# Altium schematic symbol library Schlib.SchLib: 7 symbols
Pins are listed as number, name and electrical type; pins without a type are passive.

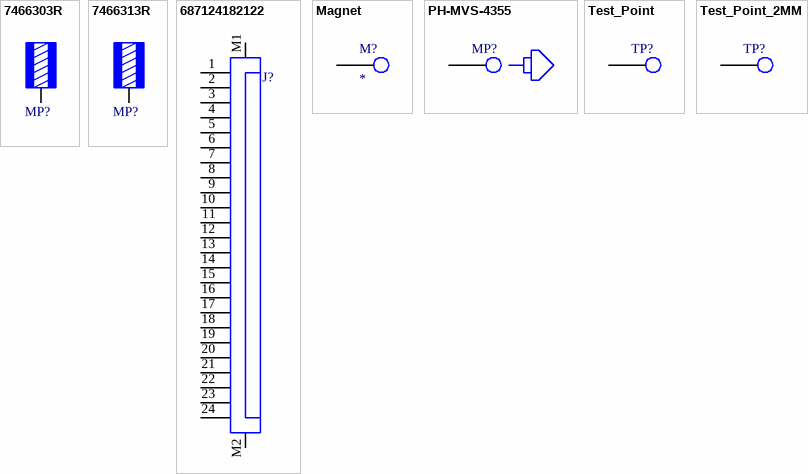
[diagram p0: symbols 7466303R to Test_Point_2MM]

## 7466303R
designator MP?, comment M3  (value not drawn)
WP-SMRA REDCUBE SMT Right Angled without pins, M3, 50A; Manufacturer Part Number: 7466303R; Manufacturer: Wurth Elektronik; Surface: Tin; ComponentLink1Description: Website Link; ComponentLink1URL: https://www.we-online.com/redexpert/article/7466303R?ad; ComponentLink2Description: Datasheet Link; ComponentLink2URL: https://www.we-online.com/redexpert/spec/7466303R?ad; Category: REDCUBE SMT; Match Code: WP-SMRA; Mount: Surface Mount; Operating Temperature Max: 150°C; Operating Temperature Min: -55°C; Packaging: Tape and Reel; Height: 5mm; Material: Brass; Rated Current: 50A; Thread Size: M3
footprint 7466303
pins: 1

## 7466313R
designator MP?, comment M3  (value not drawn)
WP-SMRA REDCUBE SMT Right Angled with pins, M3, 50A; Manufacturer Part Number: 7466313R; Manufacturer: Wurth Elektronik; Surface: Tin; ComponentLink1Description: Website Link; ComponentLink1URL: https://www.we-online.com/redexpert/article/7466313R?ad; ComponentLink2Description: Datasheet Link; ComponentLink2URL: https://www.we-online.com/redexpert/spec/7466313R?ad; Category: REDCUBE SMT; Match Code: WP-SMRA; Mount: Surface Mount; Operating Temperature Max: 150°C; Operating Temperature Min: -55°C; Packaging: Tape and Reel; Height: 7mm; Material: Brass; Rated Current: 50A; Thread Size: M3
footprint 7466313
pins: 1

## 687124182122
designator J?  (value not drawn)
WR-FPC SMT ZIF Horizontal Dual Contact, pitch 0.5mm, Horizontal, 24pins; Manufacturer: Wurth Elektronik; Contact Resistance: 30mΩ; Rated Current: 0.5A; Working Voltage: 50VAC; ComponentLink1Description: Website Link; ComponentLink1URL: https://www.we-online.com/redexpert/article/687124182122?ad; ComponentLink2Description: Datasheet Link; ComponentLink2URL: https://www.we-online.com/redexpert/spec/687124182122?ad; Manufacturer Part Number: 687124182122; Category: FPC Connectors; Match Code: WR-FPC; Mount: Surface Mount; Operating Temperature Max: 85°C; Operating Temperature Min: -55°C; Packaging: Tape and Reel; Length: 14mm; Width: 3.7mm; Height: 0.96mm; Number of Pins: 24; Orientation: Horizontal; Pitch: 0.5mm
footprint 687124182122
pins: 1, 2, 3, 4, 5, 6, 7, 8, 9, 10, 11, 12, 13, 14, 15, 16, 17, 18, 19, 20, 21, 22, 23, 24, M1, M2

## Magnet
designator M?
Magnet 3x1.5mm
footprint Magnet (Magnet 6x2mm)
pins: 1

## PH-MVS-4355
designator MP?
Pogo Pin CONTACT SPRING LOADED SLDR CUP
footprint PH-MVS-4355
pins: 1

## Test_Point
designator TP?  (no BOM)
Test Point
footprint Test_Point
pins: 1

## Test_Point_2MM
designator TP?  (no BOM)
Test Point
footprint Test_Point_2mm
pins: 1